# EAGLE library part SSD1306_OLED (library usevolt)
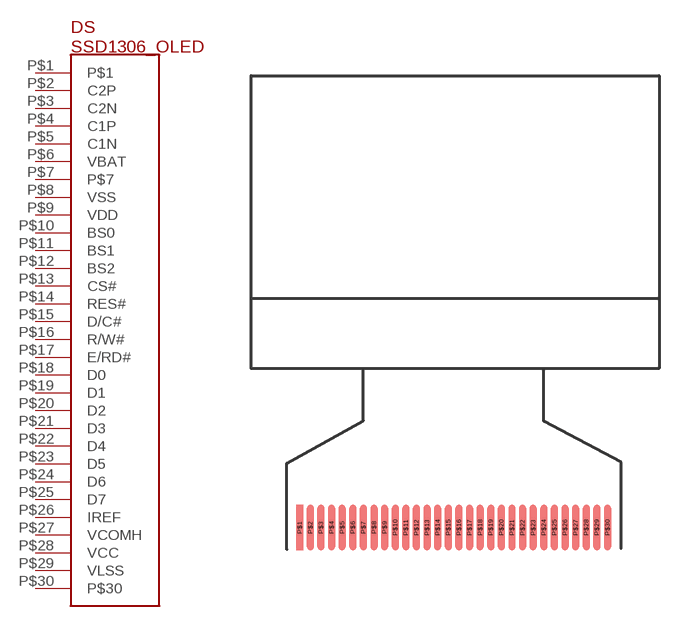
[diagram p3: symbol with the pads of SSD1306_OLED; footprint SSD1306_OLED]

Designator prefix DS

## SSD1306_OLED  [SSD1306_OLED]
P$1  P$1
P$2  C2P
P$3  C2N
P$4  C1P
P$5  C1N
P$6  VBAT
P$7  P$7
P$8  VSS
P$9  VDD
P$10  BS0
P$11  BS1
P$12  BS2
P$13  CS#
P$14  RES#
P$15  D/C#
P$16  R/W#
P$17  E/RD#
P$18  D0
P$19  D1
P$20  D2
P$21  D3
P$22  D4
P$23  D5
P$24  D6
P$25  D7
P$26  IREF
P$27  VCOMH
P$28  VCC
P$29  VLSS
P$30  P$30

## Footprint SSD1306_OLED (pad centres in mm)
smd 0.45 x 3: P$1 0,-1.4; P$2 0.7,-1.4; P$3 1.4,-1.4; P$4 2.1,-1.4; P$5 2.8,-1.4; P$6 3.5,-1.4; P$7 4.2,-1.4; P$8 4.9,-1.4; P$9 5.6,-1.4; P$10 6.3,-1.4; P$11 7,-1.4; P$12 7.7,-1.4; P$13 8.4,-1.4; P$14 9.1,-1.4; P$15 9.8,-1.4; P$16 10.5,-1.4; P$17 11.2,-1.4; P$18 11.9,-1.4; P$19 12.6,-1.4; P$20 13.3,-1.4; P$21 14,-1.4; P$22 14.7,-1.4; P$23 15.4,-1.4; P$24 16.1,-1.4; P$25 16.8,-1.4; P$26 17.5,-1.4; P$27 18.2,-1.4; P$28 18.9,-1.4; P$29 19.6,-1.4; P$30 20.3,-1.4